# Altium footprint library DIP-8.PcbLib: 1 footprints
Each footprint in its own frame and in the unit in brackets; x right, y up, seen from the top. Pads: shape width x height; smd on the part's side, far side on the other; paste and mask are expansions set on the pad; w line width, h text height; cw(c..) or ccw(c..) is an arc to the next point about the centre after c.
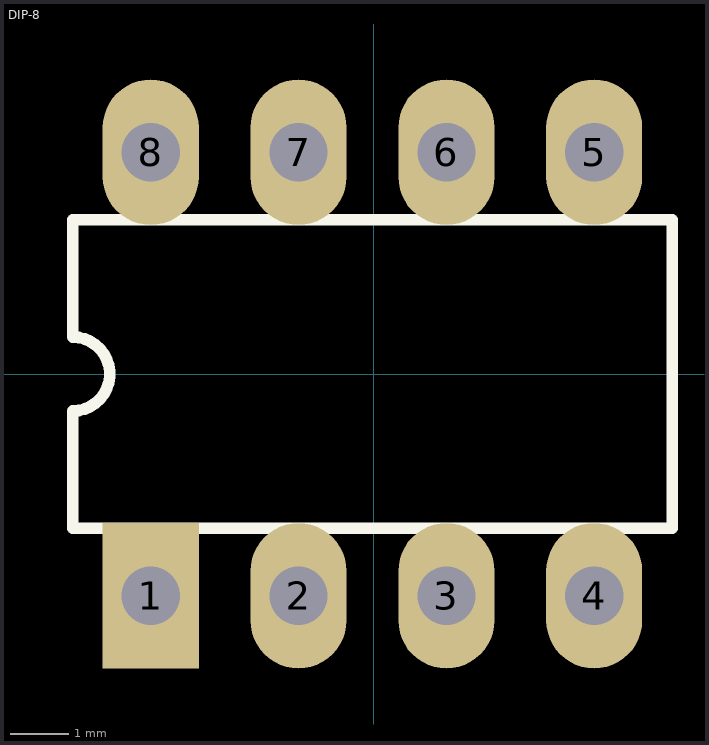
[diagram p0: the footprint, top view; thin cyan lines are the x and y axes]

## DIP-8 [mm]
pads (8):
  rect 1.65x2.5 hole 1: 1(-3.835,-3.81)
  oval 1.65x2.5 hole 1: 2(-1.295,-3.81) 3(1.245,-3.81) 4(3.785,-3.81) 5(3.785,3.81) 6(1.245,3.81) 7(-1.295,3.81) 8(-3.835,3.81)
Top Overlay:
  lines w0.2: -5.175,-2.65 -5.175,-0.635 ccw(c-5.175,0) -5.175,0.635 -5.175,2.65 5.125,2.65 5.125,-2.65 -5.175,-2.65
3D body "DIP-8.STEP": height 5.88, standoff -2.7, extent -5.485,-4.035 5.435,3.835